# Altium integrated library PLS-3R.IntLib: 1 symbol
Pins are listed as number, name and electrical type; pins without a type are passive.

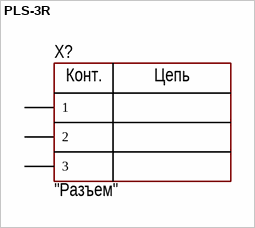
[diagram p0: symbol PLS-3R]

## PLS-3R
designator X?  CommentText: "Разъем"
Manufacturer: Connfly; ValueManufacturerPartNumber: Connector, 3pin, 2.54mm, 500VAC, 3A; PartNumber: PLS-3; TypeConnector: Connector; VoltageMax: 500VAC; Pitch: 2.54mm; CurrentMax: 3A; Multichannel: 3pin; HelpURL: https://www.chipdip.ru/product/pls-3
footprint CON: PLS-3R (Footprint not found)
pins: 1, 2, 3 (power)
text: Конт.; Цепь